# Altium schematic symbol library SCH - TRANSISTOR - VISHAY VOM618A.Schlib: 1 symbol
Pins are listed as number, name and electrical type; pins without a type are passive.

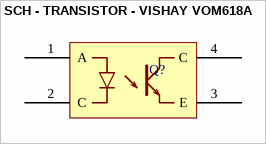
[diagram p0: symbol SCH - TRANSISTOR - VISHAY VOM618A]

## SCH - TRANSISTOR - VISHAY VOM618A
designator Q?
footprint SOP4 Vishay (SOP, 4-Leads, Body 4,6x4,2mm (max), Pitch 2,54mm, IPC Medium Density)
pins: 1 A, 2 C, 3 E, 4 C